# Altium schematic symbol library AltiumLibraries.SchLib: 442 symbols (part 1 of 3)
Pins are listed as number, name and electrical type; pins without a type are passive.

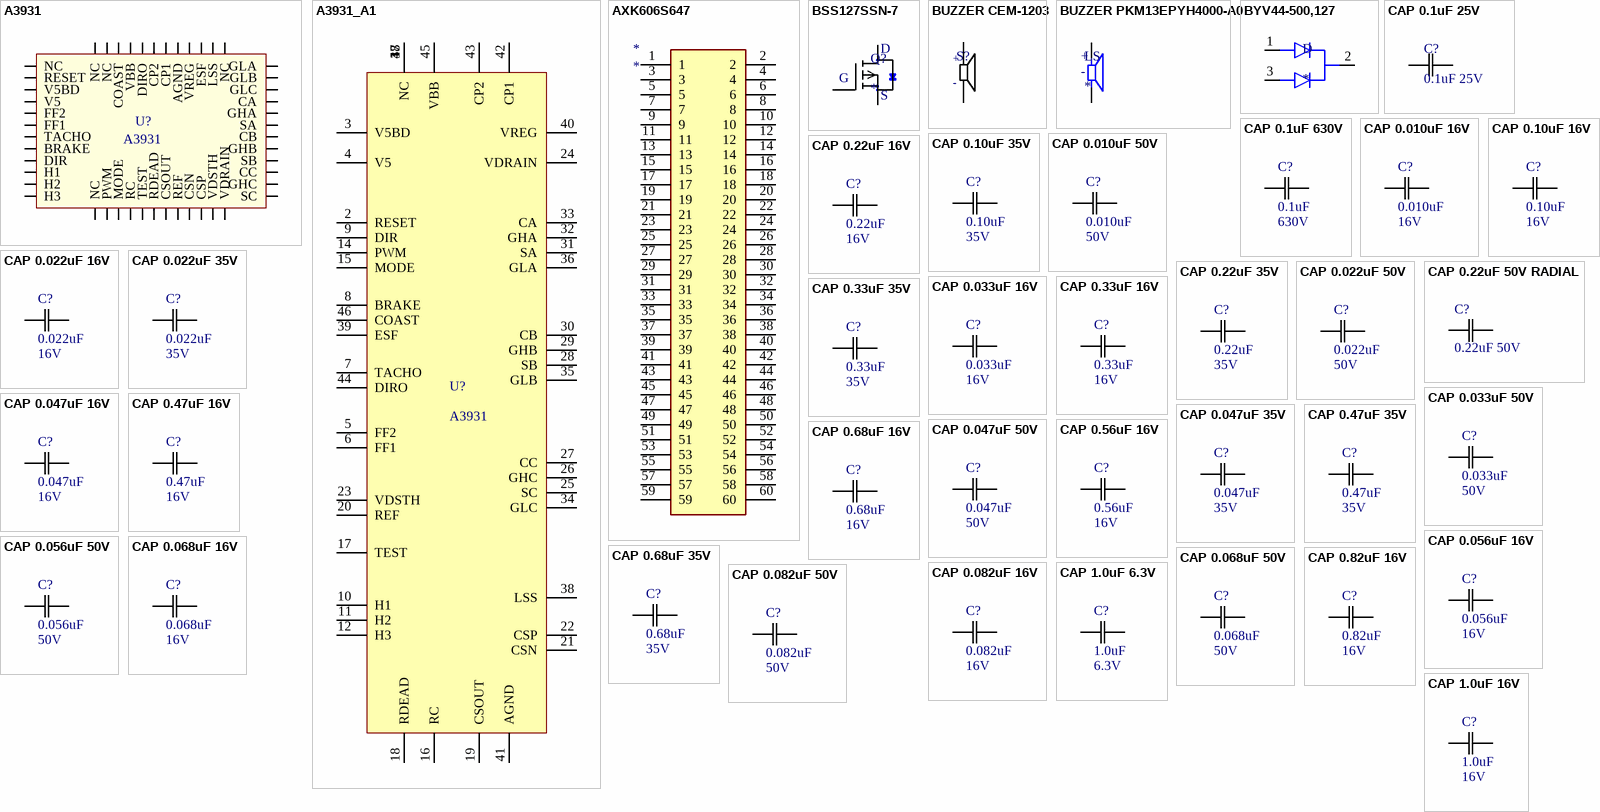
[diagram p0: symbols A3931 to CAP 1.0uF 16V]

## A3931
designator U?
IC MOTOR DRIVER 5.5V-50V 48LQFP; MF: Allegro MicroSystems; MP: A3931KJPTR-T; Rating: 5.5V ~ 50V; Digikey: 620-1290-1-ND; Digikey Link: https://www.digikey.com/product-detail/en/allegro-microsystems-llc/A3931KJPTR-T/620-1290-1-ND/2000021
pins: 1 NC, 2 RESET, 3 V5BD, 4 V5, 5 FF2, 6 FF1, 7 TACHO, 8 BRAKE, 9 DIR, 10 H1, 11 H2, 12 H3, 13 NC, 14 PWM, 15 MODE, 16 RC, 17 TEST, 18 RDEAD, 19 CSOUT, 20 REF, 21 CSN, 22 CSP, 23 VDSTH, 24 VDRAIN, 25 SC, 26 GHC, 27 CC, 28 SB, 29 GHB, 30 CB, 31 SA, 32 GHA, 33 CA, 34 GLC, 35 GLB, 36 GLA, 37 NC, 38 LSS, 39 ESF, 40 VREG, 41 AGND, 42 CP1, 43 CP2, 44 DIRO, 45 VBB, 46 COAST, 47 NC, 48 NC

## A3931_A1
designator U?, comment A3931
IC MOTOR DRIVER 5.5V-50V 48LQFP - Alternative Symbol; Digikey: 620-1290-1-ND; Digikey Link: https://www.digikey.ca/product-detail/en/allegro-microsystems/A3931KJPTR-T/620-1290-1-ND/2000021; Supplier 1: Digi-Key; Supplier Part Number 1: 620-1290-1-ND
pins: 1 NC, 2 RESET, 3 V5BD, 4 V5, 5 FF2, 6 FF1, 7 TACHO, 8 BRAKE, 9 DIR, 10 H1, 11 H2, 12 H3, 13, 14 PWM, 15 MODE, 16 RC, 17 TEST, 18 RDEAD, 19 CSOUT, 20 REF, 21 CSN, 22 CSP, 23 VDSTH, 24 VDRAIN, 25 SC, 26 GHC, 27 CC, 28 SB, 29 GHB, 30 CB, 31 SA, 32 GHA, 33 CA, 34 GLC, 35 GLB, 36 GLA, 37 NC, 38 LSS, 39 ESF, 40 VREG, 41 AGND, 42 CP1, 43 CP2, 44 DIRO, 45 VBB, 46 COAST, 47 NC, 48 NC

## AXK606S647
designator *
RS14100_WIFI_CONN
pins: 1, 2, 3, 4, 5, 6, 7, 8, 9, 10, 11, 12, 13, 14, 15, 16, 17, 18, 19, 20, 21, 22, 23, 24, 25, 26, 27, 28, 29, 30, 31, 32, 33, 34, 35, 36, 37, 38, 39, 40, 41, 42, 43, 44, 45, 46, 47, 48, 49, 50, 51, 52, 53, 54, 55, 56, 57, 58, 59, 60

## BSS127SSN-7
designator Q?
Small Signal N-Ch, 600Vds; MFG: Diodes Incorporated; Supplier: Digikey; Supplier PN: BSS127SSN-7DICT-ND
pins: D, G, S

## BUZZER CEM-1203
designator S?  (value not drawn)
AUDIO MAGNETIC XDCR 3-5V TH; Current Rating: 35 mA @ 3.5 V; Frequency: 2.048 kHz @ 3.5 V; ComponentLink1Description: Digikey Link; ComponentLink1URL: https://www.digikey.ca/products/en?keywords=CEM%201203%20buzzer; ComponentLink2Description: SnapEDA Link; ComponentLink2URL: https://www.snapeda.com/parts/CEM-1203%2842%29/CUI%20Devices/view-part/?ref=search&t=CEM%201203; Supplier 1: Digi-Key; Supplier Part Number 1: 102-1153-ND
pins: N, P
text: +; -

## BUZZER PKM13EPYH4000-A0
designator LS
Buzzers Transducer, Externally Driven Piezo 1.5V 4kHz 70dB @ 1.5V, 10cm Through Hole PC Pins; MF: Murata; MP: PKM13EPYH4000-A0; Value: *; SnapEDA_Link: https://www.snapeda.com/parts/PKM13EPYH4000-A0/Murata/view-part/4970420/?ref=snap; Package: Radial-2 Murata; Supplier 1: Digi-Key; Supplier Part Number 1: 490-4698-1-ND
pins: N, P
text: +; -

## BYV44-500,127
designator D
DIODE ARRAY GP 500V 30A TO220AB; MP: BYV44-500,127; MF: WeEn Semiconductors; Package: TO-220-3; Supplier 1: Digi-Key; Supplier Part Number 1: BYV44-500,127-ND
pins: 1 ANODE1, 2 COMMON_CATHODE, 3 ANODE2

## CAP 0.1uF 25V
designator C?, comment 0.1uF 25V
CAP CER 0.1UF 25V X7R 0805; Tolerance: 10%; Value: 0.1uF; Temperature Coefficient: X7R; Rating: 25V; Operating Temperature: -55°C ~ 125°C
pins: 1 C1, 2 C2

## CAP 0.1uF 630V
designator C?, comment Rating: 630V  (hidden comment: 0.1uF)
CAP CER 0.1uF 630V X7R 1210; Tolerance: 10%; Package: 1210; Temperature Coefficient: X7R; Operating Temperature: -55°C ~ 125°C; Value: 0.1uF
pins: 1 C1, 2 C2

## CAP 0.010uF 16V
designator C?, comment Rating: 16V  (hidden comment: 0.010uF)
CAP CER 0.010UF 16V X5R 0603/0805; Tolerance: 10%; Package: 0603/0805; Temperature Coefficient: X5R; Operating Temperature: -55°C ~ 85°C; Value: 0.010uF
pins: 1 C1, 2 C2

## CAP 0.10uF 16V
designator C?, comment Rating: 16V  (hidden comment: 0.10uF)
CAP CER 0.10UF 16V X5R 0603/0805; Tolerance: 10%; Package: 0603/0805; Temperature Coefficient: X5R; Operating Temperature: -55°C ~ 85°C; Value: 0.10uF
pins: 1 C1, 2 C2

## CAP 0.10uF 35V
designator C?, comment Rating: 35V  (hidden comment: 0.10uF)
CAP CER 0.10UF 35V X7R 0603/0805; Tolerance: 10%; Package: 0603/0805; Temperature Coefficient: X7R; Operating Temperature: -55°C ~ 125°C; Value: 0.10uF
pins: 1 C1, 2 C2

## CAP 0.010uF 50V
designator C?, comment Rating: 50V  (hidden comment: 0.010uF)
CAP CER 0.010UF 50V X7R 0603/0805; Tolerance: 10%; Package: 0603/0805; Temperature Coefficient: X7R; Operating Temperature: -55°C ~ 125°C; Value: 0.010uF
pins: 1 C1, 2 C2

## CAP 0.022uF 16V
designator C?, comment Rating: 16V  (hidden comment: 0.022uF)
CAP CER 0.022UF 16V X5R 0603/0805; Tolerance: 10%; Package: 0603/0805; Temperature Coefficient: X5R; Operating Temperature: -55°C ~ 85°C; Value: 0.022uF
pins: 1 C1, 2 C2

## CAP 0.22uF 16V
designator C?, comment Rating: 16V  (hidden comment: 0.22uF)
CAP CER 0.22UF 16V X5R 0603/0805; Tolerance: 10%; Package: 0603/0805; Temperature Coefficient: X5R; Operating Temperature: -55°C ~ 85°C; Value: 0.22uF
pins: 1 C1, 2 C2

## CAP 0.022uF 35V
designator C?, comment Rating: 35V  (hidden comment: 0.022uF)
CAP CER 0.022UF 35V X7R 0603/0805; Tolerance: 10%; Package: 0603/0805; Temperature Coefficient: X7R; Operating Temperature: -55°C ~ 125°C; Value: 0.022uF
pins: 1 C1, 2 C2

## CAP 0.22uF 35V
designator C?, comment Rating: 35V  (hidden comment: 0.22uF)
CAP CER 0.22UF 35V X7R 0603/0805; Tolerance: 10%; Package: 0603/0805; Temperature Coefficient: X7R; Operating Temperature: -55°C ~ 125°C; Value: 0.22uF
pins: 1 C1, 2 C2

## CAP 0.022uF 50V
designator C?, comment Rating: 50V  (hidden comment: 0.022uF)
CAP CER 0.022UF 50V X7R 0603/0805; Tolerance: 10%; Package: 0603/0805; Temperature Coefficient: X7R; Operating Temperature: -55°C ~ 125°C; Value: 0.022uF
pins: 1 C1, 2 C2

## CAP 0.22uF 50V RADIAL
designator C?, comment 0.22uF 50V
CAP CER 0.22UF 50V X7R RADIAL; Tolerance: 10%; Package: Through Hole Radial; Value: 0.22 uF; Rating: 50V; ComponentLink1Description: digikey; ComponentLink1URL: https://www.digikey.ca/product-detail/en/kemet/C317C221K2G5TA7301/399-13974-1-ND/6562545; Temperature coefficient: X7R; Dimensions: 0.200" L x 0.125" W (5.08mm x 3.18mm); Operating temperature: -55°C ~ 125°C
pins: 1 C1, 2 C2

## CAP 0.033uF 16V
designator C?, comment Rating: 16V  (hidden comment: 0.033uF)
CAP CER 0.033UF 16V X5R 0603/0805; Tolerance: 10%; Package: 0603/0805; Temperature Coefficient: X5R; Operating Temperature: -55°C ~ 85°C; Value: 0.033uF
pins: 1 C1, 2 C2

## CAP 0.33uF 16V
designator C?, comment Rating: 16V  (hidden comment: 0.33uF)
CAP CER 0.33UF 16V X5R 0603/0805; Tolerance: 10%; Package: 0603/0805; Temperature Coefficient: X5R; Operating Temperature: -55°C ~ 85°C; Value: 0.33uF
pins: 1 C1, 2 C2

## CAP 0.33uF 35V
designator C?, comment Rating: 35V  (hidden comment: 0.33uF)
CAP CER 0.33UF 35V X7R 0603/0805; Tolerance: 10%; Package: 0603/0805; Temperature Coefficient: X7R; Operating Temperature: -55°C ~ 125°C; Value: 0.33uF
pins: 1 C1, 2 C2

## CAP 0.033uF 50V
designator C?, comment Rating: 50V  (hidden comment: 0.033uF)
CAP CER 0.033UF 50V X7R 0603/0805; Tolerance: 10%; Package: 0603/0805; Temperature Coefficient: X7R; Operating Temperature: -55°C ~ 125°C; Value: 0.033uF
pins: 1 C1, 2 C2

## CAP 0.047uF 16V
designator C?, comment Rating: 16V  (hidden comment: 0.047uF)
CAP CER 0.047UF 16V X5R 0603/0805; Tolerance: 10%; Package: 0603/0805; Temperature Coefficient: X5R; Operating Temperature: -55°C ~ 85°C; Value: 0.047uF
pins: 1 C1, 2 C2

## CAP 0.47uF 16V
designator C?, comment Rating: 16V  (hidden comment: 0.47uF)
CAP CER 0.47UF 16V X5R 0603/0805; Tolerance: 10%; Package: 0603/0805; Temperature Coefficient: X5R; Operating Temperature: -55°C ~ 85°C; Value: 0.47uF
pins: 1 C1, 2 C2

## CAP 0.047uF 35V
designator C?, comment Rating: 35V  (hidden comment: 0.047uF)
CAP CER 0.047UF 35V X7R 0603/0805; Tolerance: 10%; Package: 0603/0805; Temperature Coefficient: X7R; Operating Temperature: -55°C ~ 125°C; Value: 0.047uF
pins: 1 C1, 2 C2

## CAP 0.47uF 35V
designator C?, comment Rating: 35V  (hidden comment: 0.47uF)
CAP CER 0.47UF 35V X7R 0603/0805; Tolerance: 10%; Package: 0603/0805; Temperature Coefficient: X7R; Operating Temperature: -55°C ~ 125°C; Value: 0.47uF
pins: 1 C1, 2 C2

## CAP 0.047uF 50V
designator C?, comment Rating: 50V  (hidden comment: 0.047uF)
CAP CER 0.047UF 50V X7R 0603/0805; Tolerance: 10%; Package: 0603/0805; Temperature Coefficient: X7R; Operating Temperature: -55°C ~ 125°C; Value: 0.047uF
pins: 1 C1, 2 C2

## CAP 0.056uF 16V
designator C?, comment Rating: 16V  (hidden comment: 0.056uF)
CAP CER 0.056UF 16V X5R 0603; Tolerance: 10%; Package: 0603; Temperature Coefficient: X5R; Operating Temperature: -55°C ~ 85°C; Value: 0.056uF
pins: 1 C1, 2 C2

## CAP 0.56uF 16V
designator C?, comment Rating: 16V  (hidden comment: 0.56uF)
CAP CER 0.56UF 16V X5R 0805; Tolerance: 10%; Package: 0805; Temperature Coefficient: X5R; Operating Temperature: -55°C ~ 85°C; Value: 0.56uF
pins: 1 C1, 2 C2

## CAP 0.056uF 50V
designator C?, comment Rating: 50V  (hidden comment: 0.056uF)
CAP CER 0.056UF 50V X7R 0603/0805; Tolerance: 10%; Package: 0603/0805; Temperature Coefficient: X7R; Operating Temperature: -55°C ~ 125°C; Value: 0.056uF
pins: 1 C1, 2 C2

## CAP 0.068uF 16V
designator C?, comment Rating: 16V  (hidden comment: 0.068uF)
CAP CER 0.068UF 16V X5R 0603/0805; Tolerance: 10%; Package: 0603/0805; Temperature Coefficient: X5R; Operating Temperature: -55°C ~ 85°C; Value: 0.068uF
pins: 1 C1, 2 C2

## CAP 0.68uF 16V
designator C?, comment Rating: 16V  (hidden comment: 0.68uF)
CAP CER 0.68UF 16V X5R 0603/0805; Tolerance: 10%; Package: 0603/0805; Temperature Coefficient: X5R; Operating Temperature: -55°C ~ 85°C; Value: 0.68uF
pins: 1 C1, 2 C2

## CAP 0.68uF 35V
designator C?, comment Rating: 35V  (hidden comment: 0.68uF)
CAP CER 0.68UF 35V X7R 0603/0805; Tolerance: 10%; Package: 0603/0805; Temperature Coefficient: X7R; Operating Temperature: -55°C ~ 125°C; Value: 0.68uF
pins: 1 C1, 2 C2

## CAP 0.068uF 50V
designator C?, comment Rating: 50V  (hidden comment: 0.068uF)
CAP CER 0.068UF 50V X7R 0603/0805; Tolerance: 10%; Package: 0603/0805; Temperature Coefficient: X7R; Operating Temperature: -55°C ~ 125°C; Value: 0.068uF
pins: 1 C1, 2 C2

## CAP 0.082uF 16V
designator C?, comment Rating: 16V  (hidden comment: 0.082uF)
CAP CER 0.082UF 16V X5R 0603; Tolerance: 10%; Package: 0603; Temperature Coefficient: X5R; Operating Temperature: -55°C ~ 85°C; Value: 0.082uF
pins: 1 C1, 2 C2

## CAP 0.82uF 16V
designator C?, comment Rating: 16V  (hidden comment: 0.82uF)
CAP CER 0.82UF 16V X5R 0805; Tolerance: 10%; Package: 0805; Temperature Coefficient: X5R; Operating Temperature: -55°C ~ 85°C; Value: 0.82uF
pins: 1 C1, 2 C2

## CAP 0.082uF 50V
designator C?, comment Rating: 50V  (hidden comment: 0.082uF)
CAP CER 0.082UF 50V X7R 0603/0805; Tolerance: 10%; Package: 0603/0805; Temperature Coefficient: X7R; Operating Temperature: -55°C ~ 125°C; Value: 0.082uF
pins: 1 C1, 2 C2

## CAP 1.0uF 6.3V
designator C?, comment Rating: 6.3V  (hidden comment: 1.0uF)
CAP CER 1.0UF 6.3V X5R 0603/0805; Tolerance: 10%; Package: 0603/0805; Temperature Coefficient: X5R; Operating Temperature: -55°C ~ 85°C; Value: 1.0uF
pins: 1 C1, 2 C2

## CAP 1.0uF 16V
designator C?, comment Rating: 16V  (hidden comment: 1.0uF)
CAP CER 1.0UF 16V X5R 0603/0805; Tolerance: 10%; Package: 0603/0805; Temperature Coefficient: X5R; Operating Temperature: -55°C ~ 85°C; Value: 1.0uF
pins: 1 C1, 2 C2

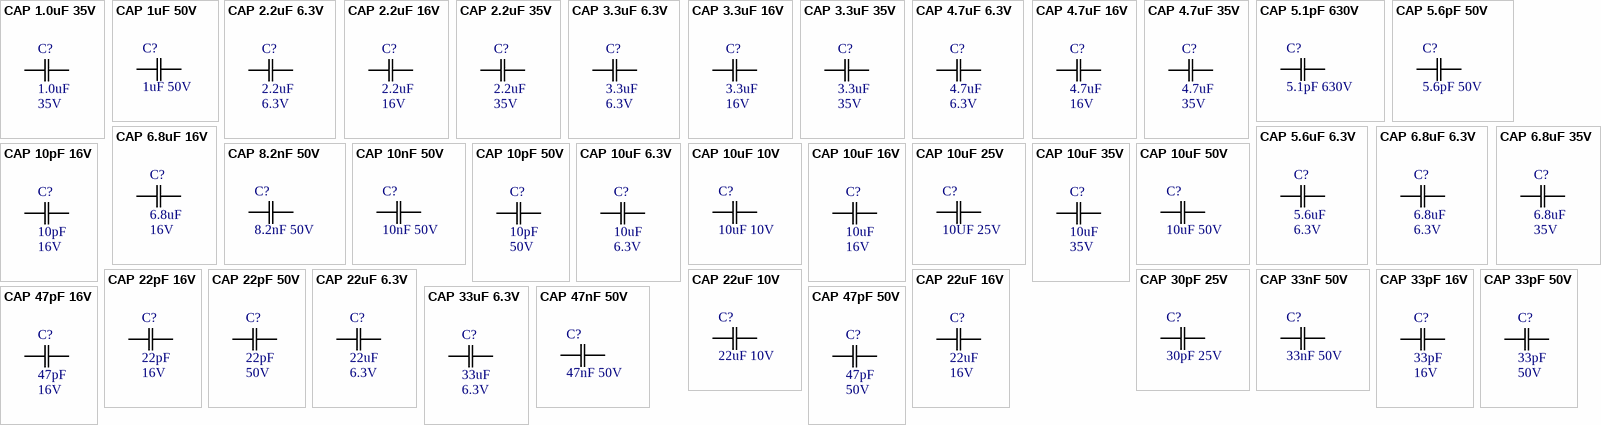
[diagram p1: symbols CAP 1.0uF 35V to CAP 47pF 50V]

## CAP 1.0uF 35V
designator C?, comment Rating: 35V  (hidden comment: 1.0uF)
CAP CER 1.0UF 35V X7R 0603/0805; Tolerance: 10%; Package: 0603/0805; Temperature Coefficient: X7R; Operating Temperature: -55°C ~ 125°C; Value: 1.0uF
pins: 1 C1, 2 C2

## CAP 1uF 50V
designator C?, comment 1uF 50V
CAP CER 1UF 50V X7R 0805; Tolerance: 10%; Package: 0805; Value: 1uF; Rating: 50V; Temperature Coefficient: X7R; Operating Temperature: -55°C ~ 125°C
pins: 1 C1, 2 C2

## CAP 2.2uF 6.3V
designator C?, comment Rating: 6.3V  (hidden comment: 2.2uF)
CAP CER 2.2UF 6.3V X5R 0603/0805; Tolerance: 10%; Package: 0603/0805; Temperature Coefficient: X5R; Operating Temperature: -55°C ~ 85°C; Value: 2.2uF
pins: 1 C1, 2 C2

## CAP 2.2uF 16V
designator C?, comment Rating: 16V  (hidden comment: 2.2uF)
CAP CER 2.2UF 16V X5R 0603/0805; Tolerance: 10%; Package: 0603/0805; Temperature Coefficient: X5R; Operating Temperature: -55°C ~ 85°C; Value: 2.2uF
pins: 1 C1, 2 C2

## CAP 2.2uF 35V
designator C?, comment Rating: 35V  (hidden comment: 2.2uF)
CAP CER 2.2UF 35V X7R 0603/0805; Tolerance: 10%; Package: 0603/0805; Temperature Coefficient: X7R; Operating Temperature: -55°C ~ 125°C; Value: 2.2uF
pins: 1 C1, 2 C2

## CAP 3.3uF 6.3V
designator C?, comment Rating: 6.3V  (hidden comment: 3.3uF)
CAP CER 3.3UF 6.3V X5R 0603/0805; Tolerance: 10%; Package: 0603/0805; Temperature Coefficient: X5R; Operating Temperature: -55°C ~ 85°C; Value: 3.3uF
pins: 1 C1, 2 C2

## CAP 3.3uF 16V
designator C?, comment Rating: 16V  (hidden comment: 3.3uF)
CAP CER 3.3UF 16V X5R 0603/0805; Tolerance: 10%; Package: 0603/0805; Temperature Coefficient: X5R; Operating Temperature: -55°C ~ 85°C; Value: 3.3uF
pins: 1 C1, 2 C2

## CAP 3.3uF 35V
designator C?, comment Rating: 35V  (hidden comment: 3.3uF)
CAP CER 3.3UF 35V X7R 0603/0805; Tolerance: 10%; Package: 0603/0805; Temperature Coefficient: X7R; Operating Temperature: -55°C ~ 125°C; Value: 3.3uF
pins: 1 C1, 2 C2

## CAP 4.7uF 6.3V
designator C?, comment Rating: 6.3V  (hidden comment: 4.7uF)
CAP CER 4.7UF 6.3V X5R 0603/0805; Tolerance: 10%; Package: 0603/0805; Temperature Coefficient: X5R; Operating Temperature: -55°C ~ 85°C; Value: 4.7uF
pins: 1 C1, 2 C2

## CAP 4.7uF 16V
designator C?, comment Rating: 16V  (hidden comment: 4.7uF)
CAP CER 4.7UF 16V X5R 0603/0805; Tolerance: 10%; Package: 0603/0805; Temperature Coefficient: X5R; Operating Temperature: -55°C ~ 85°C; Value: 4.7uF
pins: 1 C1, 2 C2

## CAP 4.7uF 35V
designator C?, comment Rating: 35V  (hidden comment: 4.7uF)
CAP CER 4.7UF 35V X7R 0603/0805; Tolerance: 10%; Package: 0603/0805; Temperature Coefficient: X7R; Operating Temperature: -55°C ~ 125°C; Value: 4.7uF
pins: 1 C1, 2 C2

## CAP 5.1pF 630V
designator C?, comment 5.1pF 630V
CAP CER 5.1PF 630V C0G/NP0 0805; Tolerance: 10%; Rating: 50V; Package: 0805; Value: 5.1pF; Temperature Coefficient: C0G/NP0; Operating Temperature: -55°C ~ 125°C
pins: 1 C1, 2 C2

## CAP 5.6pF 50V
designator C?, comment 5.6pF 50V
CAP CER 5.6PF 50V C0G/NP0 0805; Tolerance: 5%; Package: 0805; Value: 5.6pF; Rating: 50V; Temperature Coefficient: C0G/NP0; Operating Temperature: -55°C ~ 125°C
pins: 1 C1, 2 C2

## CAP 5.6uF 6.3V
designator C?, comment Rating: 6.3V  (hidden comment: 5.6uF)
CAP CER 5.6UF 6.3V X5R 0805; Tolerance: 10%; Package: 0805; Temperature Coefficient: X5R; Operating Temperature: -55°C ~ 85°C; Value: 5.6uF
pins: 1 C1, 2 C2

## CAP 6.8uF 6.3V
designator C?, comment Rating: 6.3V  (hidden comment: 6.8uF)
CAP CER 6.8UF 6.3V X5R 0603/0805; Tolerance: 10%; Package: 0603/0805; Temperature Coefficient: X5R; Operating Temperature: -55°C ~ 85°C; Value: 6.8uF
pins: 1 C1, 2 C2

## CAP 6.8uF 16V
designator C?, comment Rating: 16V  (hidden comment: 6.8uF)
CAP CER 6.8UF 16V X5R 0603/0805; Tolerance: 10%; Package: 0603/0805; Temperature Coefficient: X5R; Operating Temperature: -55°C ~ 85°C; Value: 6.8uF
pins: 1 C1, 2 C2

## CAP 6.8uF 35V
designator C?, comment Rating: 35V  (hidden comment: 6.8uF)
CAP CER 6.8UF 35V X7R 0805; Tolerance: 10%; Package: 0805; Temperature Coefficient: X7R; Operating Temperature: -55°C ~ 125°C; Value: 6.8uF
pins: 1 C1, 2 C2

## CAP 8.2nF 50V
designator C?, comment 8.2nF 50V
CAP CER 8200PF 50V X7R 0805; Tolerance: 10%; Package: 0805; Value: 8.2nF; Rating: 50V; Temperature Coefficient: X7R; Operating Temperature: -55°C ~ 125°C
pins: 1 C1, 2 C2

## CAP 10nF 50V
designator C?, comment 10nF 50V
CAP CER 10000PF 50V X7R 0805; Tolerance: 10%; Package: 0805; Value: 10nF; Rating: 50V; Temperature Coefficient: X7R; Operating Temperature: -55°C ~ 125°C
pins: 1 C1, 2 C2

## CAP 10pF 16V
designator C?, comment Rating: 16V  (hidden comment: 10pF)
CAP CER 10PF 16V X5R 0603; Tolerance: 10%; Package: 0603; Temperature Coefficient: X5R; Operating Temperature: -55°C ~ 85°C; Value: 10pF
pins: 1 C1, 2 C2

## CAP 10pF 50V
designator C?, comment Rating: 50V  (hidden comment: 10pF)
CAP CER 10PF 50V X7R 0603/0805; Tolerance: 10%; Package: 0603/0805; Temperature Coefficient: X7R; Operating Temperature: -55°C ~ 125°C; Value: 10pF
pins: 1 C1, 2 C2

## CAP 10uF 6.3V
designator C?, comment Rating: 6.3V  (hidden comment: 10uF)
CAP CER 10UF 6.3V X5R 0603/0805; Tolerance: 10%; Package: 0603/0805; Temperature Coefficient: X5R; Operating Temperature: -55°C ~ 85°C; Value: 10uF
pins: 1 C1, 2 C2

## CAP 10uF 10V
designator C?, comment 10uF 10V
CAP CER 10UF 10V X5R 0805; Tolerance: 10%; Package: 0805; Value: 10uF; Rating: 10V
pins: 1 C1, 2 C2

## CAP 10uF 16V
designator C?, comment Rating: 16V  (hidden comment: 10uF)
CAP CER 10UF 16V X5R 0603/0805; Tolerance: 10%; Package: 0603/0805; Temperature Coefficient: X5R; Operating Temperature: -55°C ~ 85°C; Value: 10uF
pins: 1 C1, 2 C2

## CAP 10uF 25V
designator C?, comment 10UF 25V
CAP CER 10UF 25V X5R 1206; Tolerance: 10%; Package: 1206; Value: 10uF; Rating: 25V; Temperature Coefficient: X5R; Operating Temperature: -55°C ~ 85°C
pins: 1 C1, 2 C2

## CAP 10uF 35V
designator C?, comment Rating: 35V  (hidden comment: 10uF)
CAP CER 10UF 35V X7R 0805; Tolerance: 10%; Package: 0805; Temperature Coefficient: X7R; Operating Temperature: -55°C ~ 125°C; Value: 10uF
pins: 1 C1, 2 C2

## CAP 10uF 50V
designator C?, comment 10uF 50V
CAP CER 10UF 50V X7R; Tolerance: 10%; Package: 1210; Value: 10uF; Rating: 50V; ComponentLink1Description: digikey; ComponentLink1URL: https://www.digikey.ca/en/products/detail/kemet/C1210C106M5RACTU/4918883
pins: 1 C1, 2 C2

## CAP 22pF 16V
designator C?, comment Rating: 16V  (hidden comment: 22pF)
CAP CER 22PF 16V X5R 0603; Tolerance: 10%; Package: 0603; Temperature Coefficient: X5R; Operating Temperature: -55°C ~ 85°C; Value: 22pF
pins: 1 C1, 2 C2

## CAP 22pF 50V
designator C?, comment Rating: 50V  (hidden comment: 22pF)
CAP CER 22PF 50V X7R 0603/0805; Tolerance: 10%; Package: 0603/0805; Temperature Coefficient: X7R; Operating Temperature: -55°C ~ 125°C; Value: 22pF
pins: 1 C1, 2 C2

## CAP 22uF 6.3V
designator C?, comment Rating: 6.3V  (hidden comment: 22uF)
CAP CER 22UF 6.3V X5R 0603/0805; Tolerance: 10%; Package: 0603/0805; Temperature Coefficient: X5R; Operating Temperature: -55°C ~ 85°C; Value: 22uF
pins: 1 C1, 2 C2

## CAP 22uF 10V
designator C?, comment 22uF 10V
CAP CER 2.2UF 10V X5R 0805; Tolerance: 20%; Package: 0805; Value: 22uF; Rating: 10V; Temperature Coefficient: X5R; Operating Temperature: -55°C ~ 85°C
pins: 1 C1, 2 C2

## CAP 22uF 16V
designator C?, comment Rating: 16V  (hidden comment: 22uF)
CAP CER 22UF 16V X5R 0805; Tolerance: 10%; Package: 0805; Temperature Coefficient: X5R; Operating Temperature: -55°C ~ 85°C; Value: 22uF
pins: 1 C1, 2 C2

## CAP 30pF 25V
designator C?, comment 30pF 25V
CAP CER 30PF 25V NP0 0805; Tolerance: 20%; Package: 0805; Value: 30pF; Rating: 25V
pins: 1 C1, 2 C2

## CAP 33nF 50V
designator C?, comment 33nF 50V
CAP CER 0.033UF 50V X7R 0805; Tolerance: 5%; Package: 0805; Value: 33nF; Rating: 50V
pins: 1 C1, 2 C2

## CAP 33pF 16V
designator C?, comment Rating: 16V  (hidden comment: 33pF)
CAP CER 33PF 16V X5R 0603; Tolerance: 10%; Package: 0603; Temperature Coefficient: X5R; Operating Temperature: -55°C ~ 85°C; Value: 33pF
pins: 1 C1, 2 C2

## CAP 33pF 50V
designator C?, comment Rating: 50V  (hidden comment: 33pF)
CAP CER 33PF 50V X7R 0603/0805; Tolerance: 10%; Package: 0603/0805; Temperature Coefficient: X7R; Operating Temperature: -55°C ~ 125°C; Value: 33pF
pins: 1 C1, 2 C2

## CAP 33uF 6.3V
designator C?, comment Rating: 6.3V  (hidden comment: 33uF)
CAP CER 33UF 6.3V X5R 0805; Tolerance: 10%; Package: 0805; Temperature Coefficient: X5R; Operating Temperature: -55°C ~ 85°C; Value: 33uF
pins: 1 C1, 2 C2

## CAP 47nF 50V
designator C?, comment 47nF 50V
CAP CER 0.047UF 50V X7R 0805; Tolerance: 5%; Package: 0805; Value: 47nF; Rating: 50V
pins: 1 C1, 2 C2

## CAP 47pF 16V
designator C?, comment Rating: 16V  (hidden comment: 47pF)
CAP CER 47PF 16V X5R 0603/0805; Tolerance: 10%; Package: 0603/0805; Temperature Coefficient: X5R; Operating Temperature: -55°C ~ 85°C; Value: 47pF
pins: 1 C1, 2 C2

## CAP 47pF 50V
designator C?, comment Rating: 50V  (hidden comment: 47pF)
CAP CER 47PF 50V X7R 0603/0805; Tolerance: 10%; Package: 0603/0805; Temperature Coefficient: X7R; Operating Temperature: -55°C ~ 125°C; Value: 47pF
pins: 1 C1, 2 C2

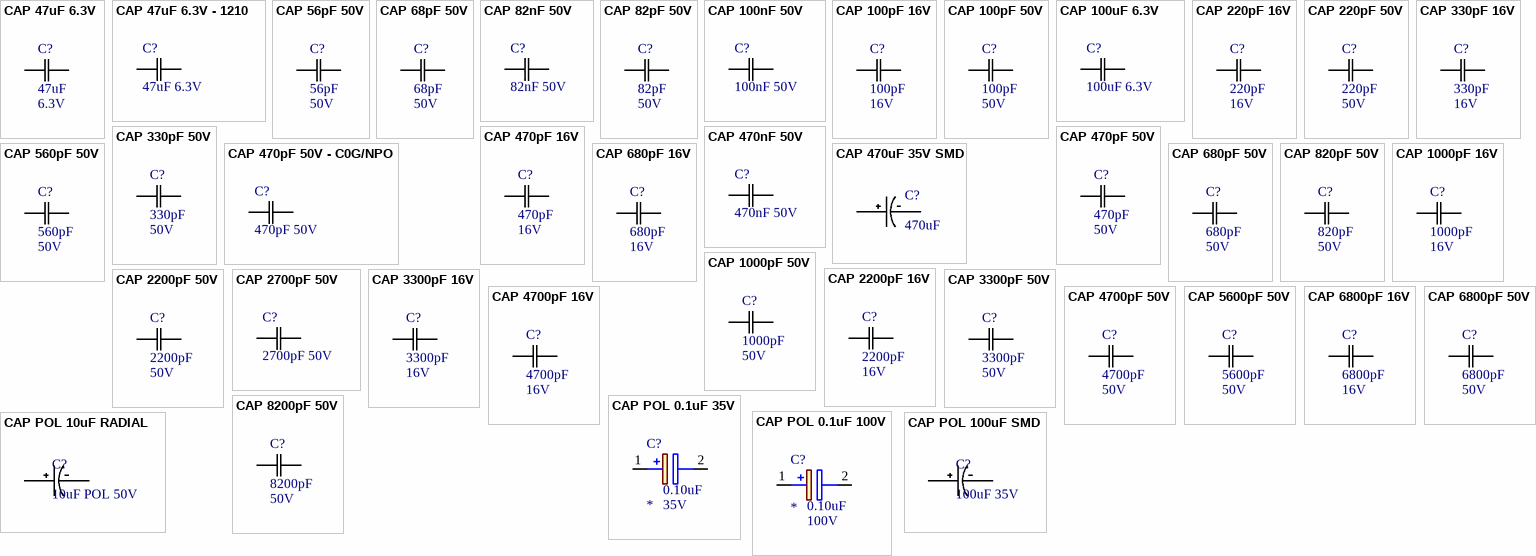
[diagram p2: symbols CAP 47uF 6.3V to CAP POL 100uF SMD]

## CAP 47uF 6.3V
designator C?, comment Rating: 6.3V  (hidden comment: 47uF)
CAP CER 47UF 6.3V X5R 0603/0805; Tolerance: 20%; Package: 0603/0805; Temperature Coefficient: X5R; Operating Temperature: -55°C ~ 85°C; Value: 47uF
pins: 1 C1, 2 C2

## CAP 47uF 6.3V - 1210
designator C?, comment 47uF 6.3V
CAP CER 47UF 6.3V X7R 1210; Tolerance: 10%; Package: 1210; Value: 47uF; Rating: 6.3V; ComponentLink1Description: digikey; ComponentLink1URL: https://www.digikey.ca/en/products/detail/kemet/C1210C106M5RACTU/4918883
pins: 1 C1, 2 C2

## CAP 56pF 50V
designator C?, comment Rating: 50V  (hidden comment: 56pF)
CAP CER 56PF 50V X7R 0603/0805; Tolerance: 10%; Package: 0603/0805; Temperature Coefficient: X7R; Operating Temperature: -55°C ~ 125°C; Value: 56pF
pins: 1 C1, 2 C2

## CAP 68pF 50V
designator C?, comment Rating: 50V  (hidden comment: 68pF)
CAP CER 68PF 50V X7R 0603/0805; Tolerance: 10%; Package: 0603/0805; Temperature Coefficient: X7R; Operating Temperature: -55°C ~ 125°C; Value: 68pF
pins: 1 C1, 2 C2

## CAP 82nF 50V
designator C?, comment 82nF 50V
CAP CER 0.082UF 50V X7R 0805; Tolerance: 5%; Package: 0805; Value: 82nF; Rating: 50V
pins: 1 C1, 2 C2

## CAP 82pF 50V
designator C?, comment Rating: 50V  (hidden comment: 82pF)
CAP CER 82PF 50V X7R 0603/0805; Tolerance: 10%; Package: 0603/0805; Temperature Coefficient: X7R; Operating Temperature: -55°C ~ 125°C; Value: 82pF
pins: 1 C1, 2 C2

## CAP 100nF 50V
designator C?, comment 100nF 50V
CAP CER 0.1UF 50V X7R 0805; Tolerance: 10%; Package: 0805; Value: 100nF; Rating: 50V
pins: 1 C1, 2 C2

## CAP 100pF 16V
designator C?, comment Rating: 16V  (hidden comment: 100pF)
CAP CER 100PF 16V X5R 0603/0805; Tolerance: 10%; Package: 0603/0805; Temperature Coefficient: X5R; Operating Temperature: -55°C ~ 85°C; Value: 100pF
pins: 1 C1, 2 C2

## CAP 100pF 50V
designator C?, comment Rating: 50V  (hidden comment: 100pF)
CAP CER 100PF 50V X7R 0603/0805; Tolerance: 10%; Package: 0603/0805; Temperature Coefficient: X7R; Operating Temperature: -55°C ~ 125°C; Value: 100pF
pins: 1 C1, 2 C2

## CAP 100uF 6.3V
designator C?, comment 100uF 6.3V
CAP CER 100UF 6.3V X5R 1206; Tolerance: 20%; Package: 1206; Value: 100uF; Rating: 6.3V
pins: 1 C1, 2 C2

## CAP 220pF 16V
designator C?, comment Rating: 16V  (hidden comment: 220pF)
CAP CER 220PF 16V X5R 0603/0805; Tolerance: 10%; Package: 0603/0805; Temperature Coefficient: X5R; Operating Temperature: -55°C ~ 85°C; Value: 220pF
pins: 1 C1, 2 C2

## CAP 220pF 50V
designator C?, comment Rating: 50V  (hidden comment: 220pF)
CAP CER 220PF 50V X7R 0603/0805; Tolerance: 10%; Package: 0603/0805; Temperature Coefficient: X7R; Operating Temperature: -55°C ~ 125°C; Value: 220pF
pins: 1 C1, 2 C2

## CAP 330pF 16V
designator C?, comment Rating: 16V  (hidden comment: 330pF)
CAP CER 330PF 16V X5R 0603/0805; Tolerance: 10%; Package: 0603/0805; Temperature Coefficient: X5R; Operating Temperature: -55°C ~ 85°C; Value: 330pF
pins: 1 C1, 2 C2

## CAP 330pF 50V
designator C?, comment Rating: 50V  (hidden comment: 330pF)
CAP CER 330PF 50V X7R 0603/0805; Tolerance: 10%; Package: 0603/0805; Temperature Coefficient: X7R; Operating Temperature: -55°C ~ 125°C; Value: 330pF
pins: 1 C1, 2 C2

## CAP 470nF 50V
designator C?, comment 470nF 50V
CAP CER 0.1UF 50V X7R 0805; Tolerance: 10%; Package: 0805; Value: 470nF; Rating: 50V
pins: 1 C1, 2 C2

## CAP 470pF 16V
designator C?, comment Rating: 16V  (hidden comment: 470pF)
CAP CER 470PF 16V X5R 0603/0805; Tolerance: 10%; Package: 0603/0805; Temperature Coefficient: X5R; Operating Temperature: -55°C ~ 85°C; Value: 470pF
pins: 1 C1, 2 C2

## CAP 470pF 50V
designator C?, comment Rating: 50V  (hidden comment: 470pF)
CAP CER 470PF 50V X7R 0603/0805; Tolerance: 10%; Package: 0603/0805; Temperature Coefficient: X7R; Operating Temperature: -55°C ~ 125°C; Value: 470pF
pins: 1 C1, 2 C2

## CAP 470pF 50V - C0G/NPO
designator C?, comment 470pF 50V
CAP CER 470PF 50V C0G/NPO 0805; Tolerance: 5%; Package: 0805; Value: 470pF; Rating: 50V
pins: 1 C1, 2 C2

## CAP 470uF 35V SMD
designator C?, comment 470uF
470µF 35V Aluminum Electrolytic Capacitors Radial, Can - SMD 5000 Hrs @ 105°C; MP: EEV-FK1V471Q; MF: Panasonic Electronic; Price: None; Package: Radial Panasonic Electronic
pins: NEG, POS

## CAP 560pF 50V
designator C?, comment Rating: 50V  (hidden comment: 560pF)
CAP CER 560PF 50V X7R 0603/0805; Tolerance: 10%; Package: 0603/0805; Temperature Coefficient: X7R; Operating Temperature: -55°C ~ 125°C; Value: 560pF
pins: 1 C1, 2 C2

## CAP 680pF 16V
designator C?, comment Rating: 16V  (hidden comment: 680pF)
CAP CER 680PF 16V X5R 0603/0805; Tolerance: 10%; Package: 0603/0805; Temperature Coefficient: X5R; Operating Temperature: -55°C ~ 85°C; Value: 680pF
pins: 1 C1, 2 C2

## CAP 680pF 50V
designator C?, comment Rating: 50V  (hidden comment: 680pF)
CAP CER 680PF 50V X7R 0603/0805; Tolerance: 10%; Package: 0603/0805; Temperature Coefficient: X7R; Operating Temperature: -55°C ~ 125°C; Value: 680pF
pins: 1 C1, 2 C2

## CAP 820pF 50V
designator C?, comment Rating: 50V  (hidden comment: 820pF)
CAP CER 820PF 50V X7R 0603/0805; Tolerance: 10%; Package: 0603/0805; Temperature Coefficient: X7R; Operating Temperature: -55°C ~ 125°C; Value: 820pF
pins: 1 C1, 2 C2

## CAP 1000pF 16V
designator C?, comment Rating: 16V  (hidden comment: 1000pF)
CAP CER 1000PF 16V X5R 0603/0805; Tolerance: 10%; Package: 0603/0805; Temperature Coefficient: X5R; Operating Temperature: -55°C ~ 85°C; Value: 1000pF
pins: 1 C1, 2 C2

## CAP 1000pF 50V
designator C?, comment Rating: 50V  (hidden comment: 1000pF)
CAP CER 1000PF 50V X7R 0603/0805; Tolerance: 10%; Package: 0603/0805; Temperature Coefficient: X7R; Operating Temperature: -55°C ~ 125°C; Value: 1000pF
pins: 1 C1, 2 C2

## CAP 2200pF 16V
designator C?, comment Rating: 16V  (hidden comment: 2200pF)
CAP CER 2200PF 16V X5R 0603/0805; Tolerance: 10%; Package: 0603/0805; Temperature Coefficient: X5R; Operating Temperature: -55°C ~ 85°C; Value: 2200pF
pins: 1 C1, 2 C2

## CAP 2200pF 50V
designator C?, comment Rating: 50V  (hidden comment: 2200pF)
CAP CER 2200PF 50V X7R 0603/0805; Tolerance: 10%; Package: 0603/0805; Temperature Coefficient: X7R; Operating Temperature: -55°C ~ 125°C; Value: 2200pF
pins: 1 C1, 2 C2

## CAP 2700pF 50V
designator C?, comment 2700pF 50V
CAP CER 2700PF 50V X7R 0805; Tolerance: 10%; Package: 0805; Value: 2700pF; Rating: 50V; Temperature Coefficient: X7R; Operating Temperature: -55°C ~ 125°C
pins: 1 C1, 2 C2

## CAP 3300pF 16V
designator C?, comment Rating: 16V  (hidden comment: 3300pF)
CAP CER 3300PF 16V X5R 0603/0805; Tolerance: 10%; Package: 0603/0805; Temperature Coefficient: X5R; Operating Temperature: -55°C ~ 85°C; Value: 3300pF
pins: 1 C1, 2 C2

## CAP 3300pF 50V
designator C?, comment Rating: 50V  (hidden comment: 3300pF)
CAP CER 3300PF 50V X7R 0603/0805; Tolerance: 10%; Package: 0603/0805; Temperature Coefficient: X7R; Operating Temperature: -55°C ~ 125°C; Value: 3300pF
pins: 1 C1, 2 C2

## CAP 4700pF 16V
designator C?, comment Rating: 16V  (hidden comment: 4700pF)
CAP CER 4700PF 16V X5R 0603/0805; Tolerance: 10%; Package: 0603/0805; Temperature Coefficient: X5R; Operating Temperature: -55°C ~ 85°C; Value: 4700pF
pins: 1 C1, 2 C2

## CAP 4700pF 50V
designator C?, comment Rating: 50V  (hidden comment: 4700pF)
CAP CER 4700PF 50V X7R 0603/0805; Tolerance: 10%; Package: 0603/0805; Temperature Coefficient: X7R; Operating Temperature: -55°C ~ 125°C; Value: 4700pF
pins: 1 C1, 2 C2

## CAP 5600pF 50V
designator C?, comment Rating: 50V  (hidden comment: 5600pF)
CAP CER 5600PF 50V X7R 0603/0805; Tolerance: 10%; Package: 0603/0805; Temperature Coefficient: X7R; Operating Temperature: -55°C ~ 125°C; Value: 5600pF
pins: 1 C1, 2 C2

## CAP 6800pF 16V
designator C?, comment Rating: 16V  (hidden comment: 6800pF)
CAP CER 6800PF 16V X5R 0603/0805; Tolerance: 10%; Package: 0603/0805; Temperature Coefficient: X5R; Operating Temperature: -55°C ~ 85°C; Value: 6800pF
pins: 1 C1, 2 C2

## CAP 6800pF 50V
designator C?, comment Rating: 50V  (hidden comment: 6800pF)
CAP CER 6800PF 50V X7R 0603/0805; Tolerance: 10%; Package: 0603/0805; Temperature Coefficient: X7R; Operating Temperature: -55°C ~ 125°C; Value: 6800pF
pins: 1 C1, 2 C2

## CAP 8200pF 50V
designator C?, comment Rating: 50V  (hidden comment: 8200pF)
CAP CER 8200PF 50V X7R 0603/0805; Tolerance: 10%; Package: 0603/0805; Temperature Coefficient: X7R; Operating Temperature: -55°C ~ 125°C; Value: 8200pF
pins: 1 C1, 2 C2

## CAP POL 0.1uF 35V
designator C?  value 0.10uF  Rating: 35V
0.1µF 35V Aluminum Electrolytic Capacitors Radial, Can - SMD  7000 Hrs @ 105°C; Manufacturer_Name: Nichicon; Manufacturer Part Number: UCB1V0R1MCL1GS; Datasheet Link: http://www.nichicon.co.jp/english/products/pdfs/e-ucb.pdf; Height: 7.3mm; Supplier 1: Digi-Key; Supplier Part Number 1: 493-9956-1-ND
pins: 1 +, 2 -

## CAP POL 0.1uF 100V
designator C?  value 0.10uF  Rating: 100V
0.1µF 100V Aluminum Electrolytic Capacitors, Through-Hole, Radial, Can 2000 Hrs @ 85°C; Manufacturer_Name: Nichicon; Manufacturer Part Number: UKL2A0R1KDD; Datasheet Link: http://www.mouser.com/ds/2/293/e-ukl-876305.pdf; Height: 12.5mm; Supplier 1: Digi-Key; Supplier Part Number 1: 493-16876-ND
pins: 1 +, 2 -

## CAP POL 10uF RADIAL
designator C?, comment 10uF POL 50V
CAP ALUM 10UF 50V RADIAL; Tolerance: 20%; Temperature Coefficient: Unspecified; ComponentLink1Description: Digikey Link; ComponentLink1URL: https://www.digikey.ca/product-detail/en/panasonic-electronic-components/ECA-1HM100I/P10425CT-ND/8603345; Package: RADIAL; Value: 10uF; Rating: 50V; Operating Temperature: -40°C ~ 85°C; Dimensions: 0.197" Dia (5.00mm)
pins: NEG, POS

## CAP POL 100uF SMD
designator C?, comment 100uF 35V
CAP ALUM 100UF 35V SMD; Value: 10uF; Tolerance: 20%; Rating: 50V; Temperature Coefficient: Unspecified; ComponentLink1Description: Digikey Link; ComponentLink1URL: https://www.digikey.ca/product-detail/en/panasonic-electronic-components/ECA-1HM100I/P10425CT-ND/8603345; Package: RADIAL; Operating Temperature: -40°C ~ 85°C; Dimensions: 0.197" Dia (5.00mm)
pins: NEG, POS

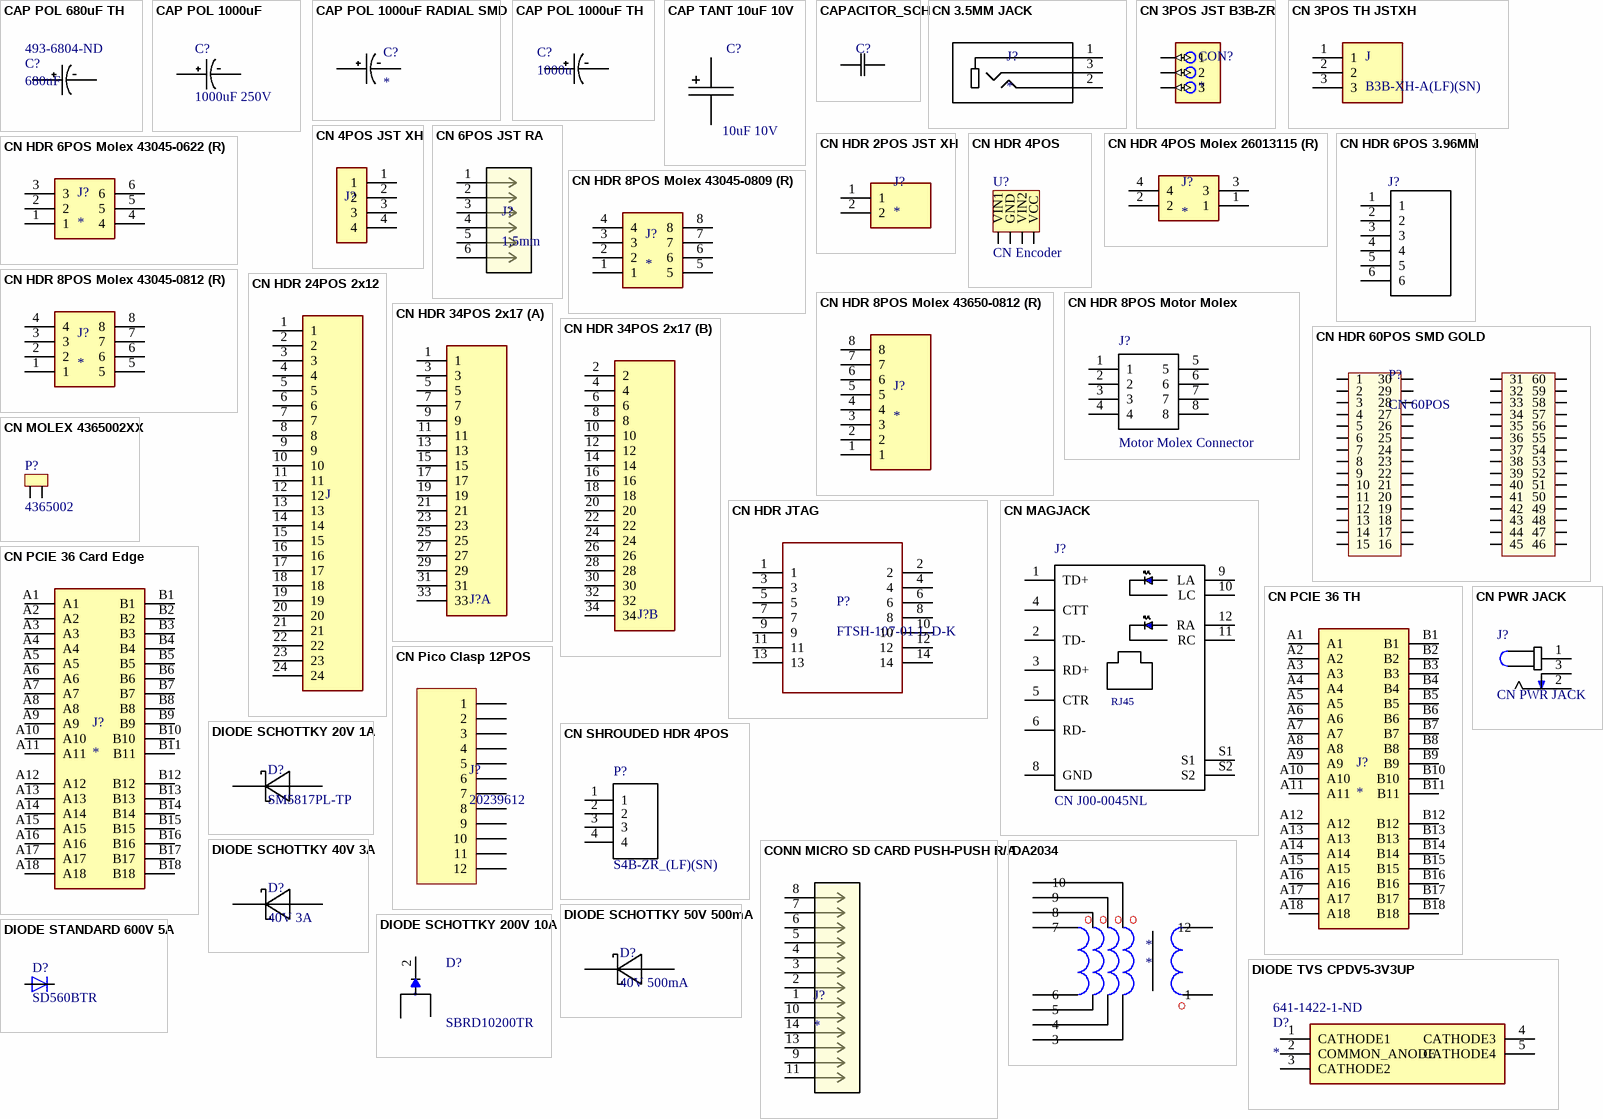
[diagram p3: symbols CAP POL 680uF TH to DIODE TVS CPDV5-3V3UP]

## CAP POL 680uF TH
designator C?, comment 680uF  Supplier Part Number 1: 493-6804-ND
NICHICON   UHW1V681MPD6 ALUMINUM ELECTROLYTIC CAPACITOR, 680UF, 35V, 20%, RADIAL, FULL REEL; Dielectric Material: Aluminium; Manufacturer: Nichicon; Manufacturer Part Number: UHW1V681MPD6; RoHS: Yes; Number of Pins: 2; Capacitance: 680uF; Tolerance: 20%; Termination: Radial; Voltage: 35V; Supplier 1: Digi-Key
pins: NEG, POS

## CAP POL 1000uF
designator C?, comment 1000uF 250V
United Chemi-Con / ESMQ251VSN102MQ45S; Dielectric Material: Aluminium; Capacitance: 1mF; Tolerance: 20%; Lead Diameter: 2mm; Supplier 1: Digi-Key; Manufacturer: United Chemi-Con; Manufacturer Part Number: ESMQ251VSN102MQ45S; RoHS: Yes; Mount: Through Hole,PCB; Number of Pins: 2; Max Operating Temperature: 85°C; Termination: Radial; Voltage: 250V; Diameter: 25.4mm; Height - Seated (Max): 45mm; Lead Pitch: 10mm; REACH SVHC: No SVHC; Supplier Part Number 1: 565-2754-ND
pins: NEG, POS

## CAP POL 1000uF RADIAL SMD
designator C?
1000µF 25V Aluminum Electrolytic Capacitors Radial, Can - SMD 5000 Hrs @ 105Â°C; MF: Panasonic; MP: EEV-FK1E102Q; Package: Radial Panasonic; Value: *; Price: None; SnapEDA_Link: https://www.snapeda.com/parts/EEV-FK1E102Q/Panasonic%20Electronic%20Components/view-part/492355/?ref=snap; ComponentLink1Description: Digi-Key; ComponentLink1URL: https://www.digikey.ca/en/products/detail/panasonic-electronic-components/EEV-FK1E102Q/396274?s=N4IgTCBcDaIKJwGoFoBiBpAjHTAGMAiiALoC%2BQA; ComponentLink2Description: ciiva; ComponentLink2URL: https://ciiva.com/part/250usg1000mefcsn25x45-4128165
pins: NEG, POS

## CAP POL 1000uF TH
designator C?, comment 1000u
NICHICON   UVR1E102MPD1TD   ALUMINUM ELECTROLYTIC CAPACITOR, 1000UF, 25V, 20%, RADIAL, FULL REEL; Dielectric Material: Aluminium; Capacitance: 1mF; Leakage Current: 750uA; Dissipation Factor: 0.16%; Lead Diameter: 0.6mm; Supplier 1: Digi-Key; Manufacturer: Nichicon; Manufacturer Part Number: UVR1E102MPD1TD; RoHS: Yes; Category: Aluminum Electrolytic Capacitors; Mount: Through Hole,PCB; Number of Pins: 2; Max Operating Temperature: 85°C; Tolerance: 20%; Voltage Rating (DC): 25V; Voltage Rating: 25V; Termination: Radial; Voltage: 25V; Diameter: 10mm; Length: 20mm; Height: 20mm; Height - Seated (Max): 0.866inch; Lead Pitch: 5mm; REACH SVHC: No SVHC; ComponentLink1URL: https://datasheet.ciiva.com/7851/e-vr-7851718.pdf?src-supplier=Element14; ComponentLink1Description: https://datasheet.ciiva.com/7851/e-vr-7851718.pdf?src-supplier=Element14; ComponentLink2URL: https://datasheet.ciiva.com/6300/e-vr-6300009.pdf?src-supplier=Digi-Key; ComponentLink2Description: https://datasheet.ciiva.com/6300/e-vr-6300009.pdf?src-supplier=Digi-Key; ComponentLink3URL: https://datasheet.ciiva.com/6300/e-vr-6300010.pdf?src-supplier=Digi-Key; ComponentLink3Description: https://datasheet.ciiva.com/6300/e-vr-6300010.pdf?src-supplier=Digi-Key; ComponentLink4URL: https://datasheet.ciiva.com/11684/e-vr-11684106.pdf?src-supplier=Avnet; ComponentLink4Description: https://datasheet.ciiva.com/11684/e-vr-11684106.pdf?src-supplier=Avnet; ComponentLink5URL: https://datasheet.ciiva.com/16502/e-vr-16502813.pdf?src-supplier=Future+Electronics; ComponentLink5Description: https://datasheet.ciiva.com/16502/e-vr-16502813.pdf?src-supplier=Future+Electronics; ComponentLink6URL: https://datasheet.ciiva.com/46381/1909356-46381757.pdf?src-supplier=Element14; ComponentLink6Description: https://datasheet.ciiva.com/46381/1909356-46381757.pdf?src-supplier=Element14; Supplier Part Number 1: 493-5913-1-ND
pins: NEG, POS

## CAP TANT 10uF 10V
designator C?, comment 10uF 10V
CAP TANT 10UF 10V 1206; Tolerance: 10%; Package: 1206; Value: 10uF; Rating: 10V; Operating Temperature: -55°C ~ 125°C
pins: 1 P$1, 2 P$2

## CAPACITOR_SCH
designator C?
pins: 1 C1, 2 C2

## CN 3.5MM JACK
designator J?
CN JACK STEREO 3.5MM R/A; MF: CUI Devices; MP: SJ1-3523N; Digikey: CP1-3523N-ND; Digikey Link: https://www.digikey.ca/product-detail/en/cui-devices/SJ1-3523N/CP1-3523N-ND/738689; Supplier 1: Digi-Key; Supplier Part Number 1: CP1-3523N-ND
pins: 1, 2, 3

## CN 3POS JST B3B-ZR
designator CON?
Connector Header Through Hole 3 position 0.059 (1.50mm); MP: B3B-ZR; MF: JST Sales; Price: $0.18; Package: Bulk; SnapEDA_Link: https://www.snapeda.com/parts/B3B-ZR/JST%20Sales%20America%20Inc./view-part/496625/?ref=snap; Value: *; ComponentLink1Description: Digikey Link; ComponentLink1URL: https://www.digikey.com/en/products/detail/jst-sales-america-inc/B3B-ZR(LF)(SN)/926565?utm_source=snapeda&utm_medium=aggregator&utm_campaign=buynow; Digikey: 455-1658-ND
pins: 1 (io), 2 (io), 3 (io)

## CN 3POS TH JSTXH
designator J, comment B3B-XH-A(LF)(SN)
CN 3POS TH JST XH; MF: JST Sales; Package: None; SnapEDA_Link: https://www.snapeda.com/parts/B3B-XH-A(LF)(SN)/JST%20Sales%20America%20Inc./view-part/231271/?ref=snap; MP: B3B-XH-A(LF)(SN); Price: None; Value: *
pins: 1, 2, 3

## CN 4POS JST XH
designator J?
Connector Header Through Hole 4 position 0.098 _2.50mm_ / B4B-XH-A(LF)(SN); MP: B4B-XH-A_LF__SN_; MF: JST Sales; Price: None; Package: None; Value: *; SnapEDA_Link: https://www.snapeda.com/parts/B4B-XH-A%28LF%29%28SN%29/JST%20Sales%20America%20Inc./view-part/447494/?ref=snap
pins: 1, 2, 3, 4

## CN 6POS JST RA
designator J?, comment 1.5mm
Conn Shrouded Header HDR 6 POS 1.5mm Solder RA Thru-Hole Box; Manufacturer: JST; Manufacturer Part Number: S6B-ZR(LF)(SN); Current Rating: 1A; Voltage Rating: 50V; Supplier 1: Digi-Key; RoHS: Yes; Category: Headers and Wire Housings; Mount: Through Hole; Number of Pins: 6; Max Operating Temperature: 85°C; Termination: Solder; Voltage Rating (DC): 50V; Length: 10.5mm; Width: 3.5mm; Height: 7.2mm; Depth: 6mm; Lead Pitch: 1.5mm; REACH SVHC: No SVHC; ComponentLink1URL: https://datasheet.ciiva.com/8052/80556-8052225.pdf?src-supplier=Element14; ComponentLink1Description: https://datasheet.ciiva.com/8052/80556-8052225.pdf?src-supplier=Element14; ComponentLink2URL: https://datasheet.ciiva.com/25617/0900766b81147f94-25617345.pdf?src-supplier=RSComponents; ComponentLink2Description: https://datasheet.ciiva.com/25617/0900766b81147f94-25617345.pdf?src-supplier=RSComponents; ComponentLink3URL: https://datasheet.ciiva.com/11752/0900766b8082f593-11752194.pdf?src-supplier=RSComponents; ComponentLink3Description: https://datasheet.ciiva.com/11752/0900766b8082f593-11752194.pdf?src-supplier=RSComponents; ComponentLink4URL: https://datasheet.ciiva.com/26894/getdatasheetpartid-642095-26894637.pdf?src-supplier=Verical; ComponentLink4Description: https://datasheet.ciiva.com/26894/getdatasheetpartid-642095-26894637.pdf?src-supplier=Verical; ComponentLink5URL: https://datasheet.ciiva.com/712/ezh-712560.pdf?src-supplier=Digi-Key; ComponentLink5Description: https://datasheet.ciiva.com/712/ezh-712560.pdf?src-supplier=Digi-Key; ComponentLink6URL: https://datasheet.ciiva.com/16484/s6b-zrlfsn-16484554.pdf?src-supplier=Future+Electronics; ComponentLink6Description: https://datasheet.ciiva.com/16484/s6b-zrlfsn-16484554.pdf?src-supplier=Future+Electronics; Supplier Part Number 1: 455-1673-ND
pins: 1, 2, 3, 4, 5, 6

## CN HDR 2POS JST XH
designator J?
Connector Header Through Hole 2 position 0.098 _2.50mm_ / JST XH; MP: B2B-XH-A_LF__SN_; MF: JST Sales; Price: None; Package: None; Value: *; SnapEDA_Link: https://www.snapeda.com/parts/B2B-XH-A%28LF%29%28SN%29/JST%20Sales%20America%20Inc./view-part/492310/?ref=snap
pins: 1, 2

## CN HDR 4POS
designator U?, comment CN Encoder
CN HDR R/A 4POS 1.5MM; MF: JST Sales America Inc.; MP: S4B-ZR(LF)(SN); Rating: 1A; Digikey: 455-1671-ND; Digikey Link: https://www.digikey.ca/products/en?keywords=455-1671-ND; Price: 0.324 CAD; Package: N/A; Value: N/A; Supplier 1: Digi-Key; Supplier Part Number 1: 455-1671-ND
pins: GND (power), VCC (power), VIN1 (in), VIN2 (in)

## CN HDR 4POS Molex 26013115 (R)
designator J?
Molex 26013115 4POS Minifit / dual row, right angle
pins: 1, 2, 3, 4

## CN HDR 6POS 3.96MM
designator J?, comment CONN HEADER VERT 6POS 3.96MM  (value not drawn)
MF: TE Connectivity; MP: 1877285-6; Current Rating: 7.5A; Voltage Rating: 250VAC; SnapEDA_Link: https://www.snapeda.com/parts/1877285-6/TE%20Connectivity/view-part/2371244/?ref=snap; Digikey: A99849-ND; Digikey Link: https://www.digikey.ca/product-detail/en/te-connectivity-amp-connectors/1877285-6/A99849-ND/2000097; Supplier 1: Digi-Key; Supplier Part Number 1: A99849-ND
pins: 1, 2, 3, 4, 5, 6

## CN HDR 6POS Molex 43045-0622 (R)
designator J?
Molex 43045-0622 6POS Microfit / dual row, right angle
pins: 1, 2, 3, 4, 5, 6

## CN HDR 8POS Molex 43045-0809 (R)
designator J?
Molex 43045-0809 8POS Microfit / dual row, right angle, surface mount
pins: 1, 2, 3, 4, 5, 6, 7, 8

## CN HDR 8POS Molex 43045-0812 (R)
designator J?
Molex 43045-0812 8POS Microfit / DR TH Vertical
pins: 1, 2, 3, 4, 5, 6, 7, 8

## CN HDR 8POS Molex 43650-0812 (R)
designator J?
Molex 43650-0812 8POS Microfit / single row, right angle, surface mount
pins: 1, 2, 3, 4, 5, 6, 7, 8

## CN HDR 8POS Motor Molex
designator J?, comment Motor Molex Connector
Connector Header Through Hole 8 position 0.165" (4.20mm); MP: 0039281083; MF: Molex; Digikey: WM3803-ND; Price: 1.624 CAD; Value: N/A; Digikey Link: https://www.digikey.ca/products/en?keywords=WM3803-ND; Supplier 1: Digi-Key; Supplier Part Number 1: WM3803-ND
pins: 1, 2, 3, 4, 5, 6, 7, 8

## CN HDR 24POS 2x12
designator J  (value not drawn)
Pin Connector 2X12P MOD2 STIFTLEI 24 POS 0.1" 2.54mm
pins: 1, 2, 3, 4, 5, 6, 7, 8, 9, 10, 11, 12, 13, 14, 15, 16, 17, 18, 19, 20, 21, 22, 23, 24

## CN HDR 34POS 2x17
designator J?, comment 0.1" Header Female 34  (value not drawn)
Female Header THRU 34POS 2ROW 0.1" (2.54mm) pitch
part A pins: 1, 3, 5, 7, 9, 11, 13, 15, 17, 19, 21, 23, 25, 27, 29, 31, 33
part B pins: 2, 4, 6, 8, 10, 12, 14, 16, 18, 20, 22, 24, 26, 28, 30, 32, 34

## CN HDR 60POS SMD GOLD
designator P?, comment CN 60POS
60 Position Connector Header, Outer Shroud Contacts Surface Mount Gold; MF: Panasonic Electric Works; MP: AXK6S60647YG; Digikey: 255-2536-1-ND; Digikey Link: https://www.digikey.ca/product-detail/en/panasonic-electric-works/AXK6S60647YG/255-2536-1-ND/1986699; Price: 3.718; Value: N/A; Tolerance: N/A; Rating: N/A; Package: N/A; Supplier 1: Digi-Key; Supplier Part Number 1: 255-2536-1-ND
pins: 1, 2, 3, 4, 5, 6, 7, 8, 9, 10, 11, 12, 13, 14, 15, 16, 17, 18, 19, 20, 21, 22, 23, 24, 25, 26, 27, 28, 29, 30, 31, 32, 33, 34, 35, 36, 37, 38, 39, 40, 41, 42, 43, 44, 45, 46, 47, 48, 49, 50, 51, 52, 53, 54, 55, 56, 57, 58, 59, 60

## CN HDR JTAG
designator P?, comment FTSH-107-01-L-D-K
Connector Header Through Hole 14 position 0.050" (1.27mm); MF: Samtec Inc.; Rating: 3.4A; ComponentLink1Description: Digikey; ComponentLink1URL: https://www.digikey.ca/product-detail/en/samtec-inc/FTSH-107-01-L-D-K/612-FTSH-107-01-L-D-K-ND/6693516; ComponentLink2Description: Datasheet; ComponentLink2URL: https://www.digikey.ca/en/datasheets/samtecinc/samtec-inc-ftsh-1xx-xx-xx-d-xx-xx-mkt; Digikey: 612-FTSH-107-01-L-D-K-ND; Digikey Link: https://www.digikey.ca/product-detail/en/samtec-inc/FTSH-107-01-L-D-K/612-FTSH-107-01-L-D-K-ND/6693516; MP: FTSH-107-01-L-D-K; Price: 5.14000 CAD; Supplier 1: Mouser; Supplier Part Number 1: 200-FTSH10701LDK
pins: 1, 2, 3, 4, 5, 6, 7, 8, 9, 10, 11, 12, 13, 14

## CN MAGJACK
designator J?, comment CN J00-0045NL
CN MAGJACK 1PORT 100 BASE-TX; MF: Pulse Electronics; Package: None; Digikey Link: https://www.digikey.com/product-detail/en/pulse-electronics-network/J00-0045NL/553-1619-5-ND/1036860?utm_source=snapeda&utm_medium=aggregator&utm_campaign=symbol; Digikey: 553-1619-5-ND; SnapEDA_Link: https://www.snapeda.com/parts/J00-0045NL/Pulse%20Electronics%20Network/view-part/87956/?ref=snap; MP: J00-0045NL; Value: *; Supplier 1: Mouser; Supplier Part Number 1: 673-J00-0045NL
pins: 1 TD+, 2 TD-, 3 RD+, 4 CTT, 5 CTR, 6 RD-, 8 GND, 9 LA, 10 LC, 11 RC, 12 RA, S1, S2
text: RJ45

## CN MOLEX 4365002XX
designator P?, comment 4365002
MOLEX MICROFIT 2CKT RIGHT THRU; MP: 4365002XX; MF: MOLEX; Digikey: WM17581-ND; Digikey Link: https://www.digikey.com/en/products/detail/molex/0436500205/3310532?s=N4IgTCBcDaICwGYBsBWADGsaUgLoF8g; Package: Microfit; Price: 1.44 CAD; Value: N/A; Supplier 1: Digi-Key
pins: 1, 2

## CN PCIE 36 Card Edge
designator J?
36 Position Male PCIE Connector
pins: A1, A2, A3, A4, A5, A6, A7, A8, A9, A10, A11, A12, A13, A14, A15, A16, A17, A18, B1, B2, B3, B4, B5, B6, B7, B8, B9, B10, B11, B12, B13, B14, B15, B16, B17, B18

## CN PCIE 36 TH
designator J?
36 Position Female Connector PCI Expressâ„¢ Gold 0.039 _1.00mm_ Black 10018784-10210TLF; MF: Amphenol ICC; Price: None; SnapEDA_Link: https://www.snapeda.com/parts/10018784-10210TLF/Amphenol%20FCI/view-part/520950/?ref=snap; MP: 10018784-10210TLF; Package: None; Value: *
pins: A1, A2, A3, A4, A5, A6, A7, A8, A9, A10, A11, A12, A13, A14, A15, A16, A17, A18, B1, B2, B3, B4, B5, B6, B7, B8, B9, B10, B11, B12, B13, B14, B15, B16, B17, B18

## CN Pico Clasp 12POS
designator J?, comment 20239612
12 POS Right Angle Pico Clasp Surface Mount
pins: 1, 2, 3, 4, 5, 6, 7, 8, 9, 10, 11, 12

## CN PWR JACK
designator J?
1.3 x 4.2 mm, 2.0 A, Horizontal, Through Hole, Dc Power Jack Connector; MP: PJ-007; MF: CUI Devices; Current Rating: 2.0A; Price: None; SnapEDA_Link: https://www.snapeda.com/parts/PJ-007/CUI%20Devices/view-part/260682/?ref=snap; Package: None; Value: *; Supplier 1: Digi-Key; Supplier Part Number 1: CP-2519-ND
pins: 1, 2, 3

## CN SHROUDED HDR 4POS
designator P?, comment S4B-ZR_(LF)(SN)
Conn Shrouded Header HDR 4 POS 1.5mm Solder RA Thru-Hole Box; MP: S4B-ZR _LF__SN_; MF: JST Sales; Package: None; Price: None; Supplier 1: Digi-Key; Supplier Part Number 1: 455-1671-ND
pins: 1, 2, 3, 4

## CONN MICRO SD CARD PUSH-PUSH R/A
designator J?
10 (8 + 2) Position Card Connector Secure Digital - microSD™ Surface Mount, Right Angle Gold; MF: Molex; MP: 5027740891; ComponentLink1Description: Digikey; ComponentLink1URL: https://www.digikey.ca/en/products/detail/molex/5027740891/1952536; Digikey: WM24066CT-ND; ComponentLink2Description: Datasheet; ComponentLink2URL: https://www.molex.com/pdm_docs/sd/5027740891_sd.pdf
pins: 1, 2, 3, 4, 5, 6, 7, 8, 9, 10, 11, 13, 14

## DA2034
designator *
Audio Transformers / Signal Transformers DA2032 Cap Chrgr For Linear LT3750/51; Supplier 1: Mouser; Supplier Part Number 1: 994-DA2034-ALB
pins: 1, 3, 4, 5, 6, 7, 8, 9, 10, 12

## DIODE SCHOTTKY 20V 1A
designator D?, comment SM5817PL-TP
Diode Schottky 20V 1A Surface Mount SOD-123FL; MF: Micro Commercial Co; ComponentLink1Description: digikey; ComponentLink1URL: https://www.digikey.ca/product-detail/en/on-semiconductor/MBR0540T1G/MBR0540T1GOSCT-ND/917967; Digikey: SM5817PL-TPMSCT-ND; Digikey Link: https://www.digikey.ca/product-detail/en/micro-commercial-co/SM5817PL-TP/SM5817PL-TPMSCT-ND/1793410; MP: SM5817PL-TP; Voltage Rating: 20V; Package: SOD-123; Current Rating: 1A
pins: A, C K

## DIODE SCHOTTKY 40V 3A
designator D?, comment 40V 3A
Diode Schottky 40V 3A Surface Mount SMA; ComponentLink1Description: digikey; ComponentLink1URL: https://www.digikey.ca/product-detail/en/on-semiconductor/MBR0540T1G/MBR0540T1GOSCT-ND/917967; Package: DO-214AC
pins: A, C K

## DIODE SCHOTTKY 50V 500mA
designator D?, comment 40V 500mA
DIODE SCHOTTKY SMD 40V 500mA SOD123; ComponentLink1Description: digikey; ComponentLink1URL: https://www.digikey.ca/product-detail/en/on-semiconductor/MBR0540T1G/MBR0540T1GOSCT-ND/917967; Package: SOD-123
pins: A, C

## DIODE SCHOTTKY 200V 10A
designator D?, comment SBRD10200TR
Diode Schottky 200V 10A Surface Mount DPAK; MF: SMC Diode; MP: SBRD10200TR; SnapEDA_Link: https://www.snapeda.com/parts/SBRD10200TR/SMC%20Diode%20Solutions/view-part/702246/?ref=snap; Package: TO-252-3 SMC; ComponentLink1Description: digikey; ComponentLink1URL: https://www.digikey.ca/product-detail/en/smc-diode-solutions/SBRD10200TR/1655-1939-1-ND/8625508; Digikey: 1655-1939-1-ND; Digikey Link: https://www.digikey.ca/product-detail/en/smc-diode-solutions/SBRD10200TR/1655-1939-1-ND/8625508
pins: 1, 2, 3

## DIODE STANDARD 600V 5A
designator D?, comment SD560BTR
Diode Standard 600V 5A Surface Mount SMB; Supplier 1: Digi-Key; Supplier Part Number 1: 1655-1530-1-ND
pins: A, C

## DIODE TVS CPDV5-3V3UP
designator D?  Supplier Part Number 1: 641-1422-1-ND
TVS Diode Bidirectional Vbr = 3.5V, Working Voltage = 3.3V; Manufacturer_Name: Comchip Technology; Manufacturer Part Number: CPDV5-3V3UP; Datasheet Link: http://www.comchiptech.com/admin/files/product/CPDV5-3V3UP-HF%20RevB181493.pdf; Height: 1.1mm; Supplier 1: Digi-Key
pins: 1 CATHODE1, 2 COMMON_ANODE, 3 CATHODE2, 4 CATHODE3, 5 CATHODE4

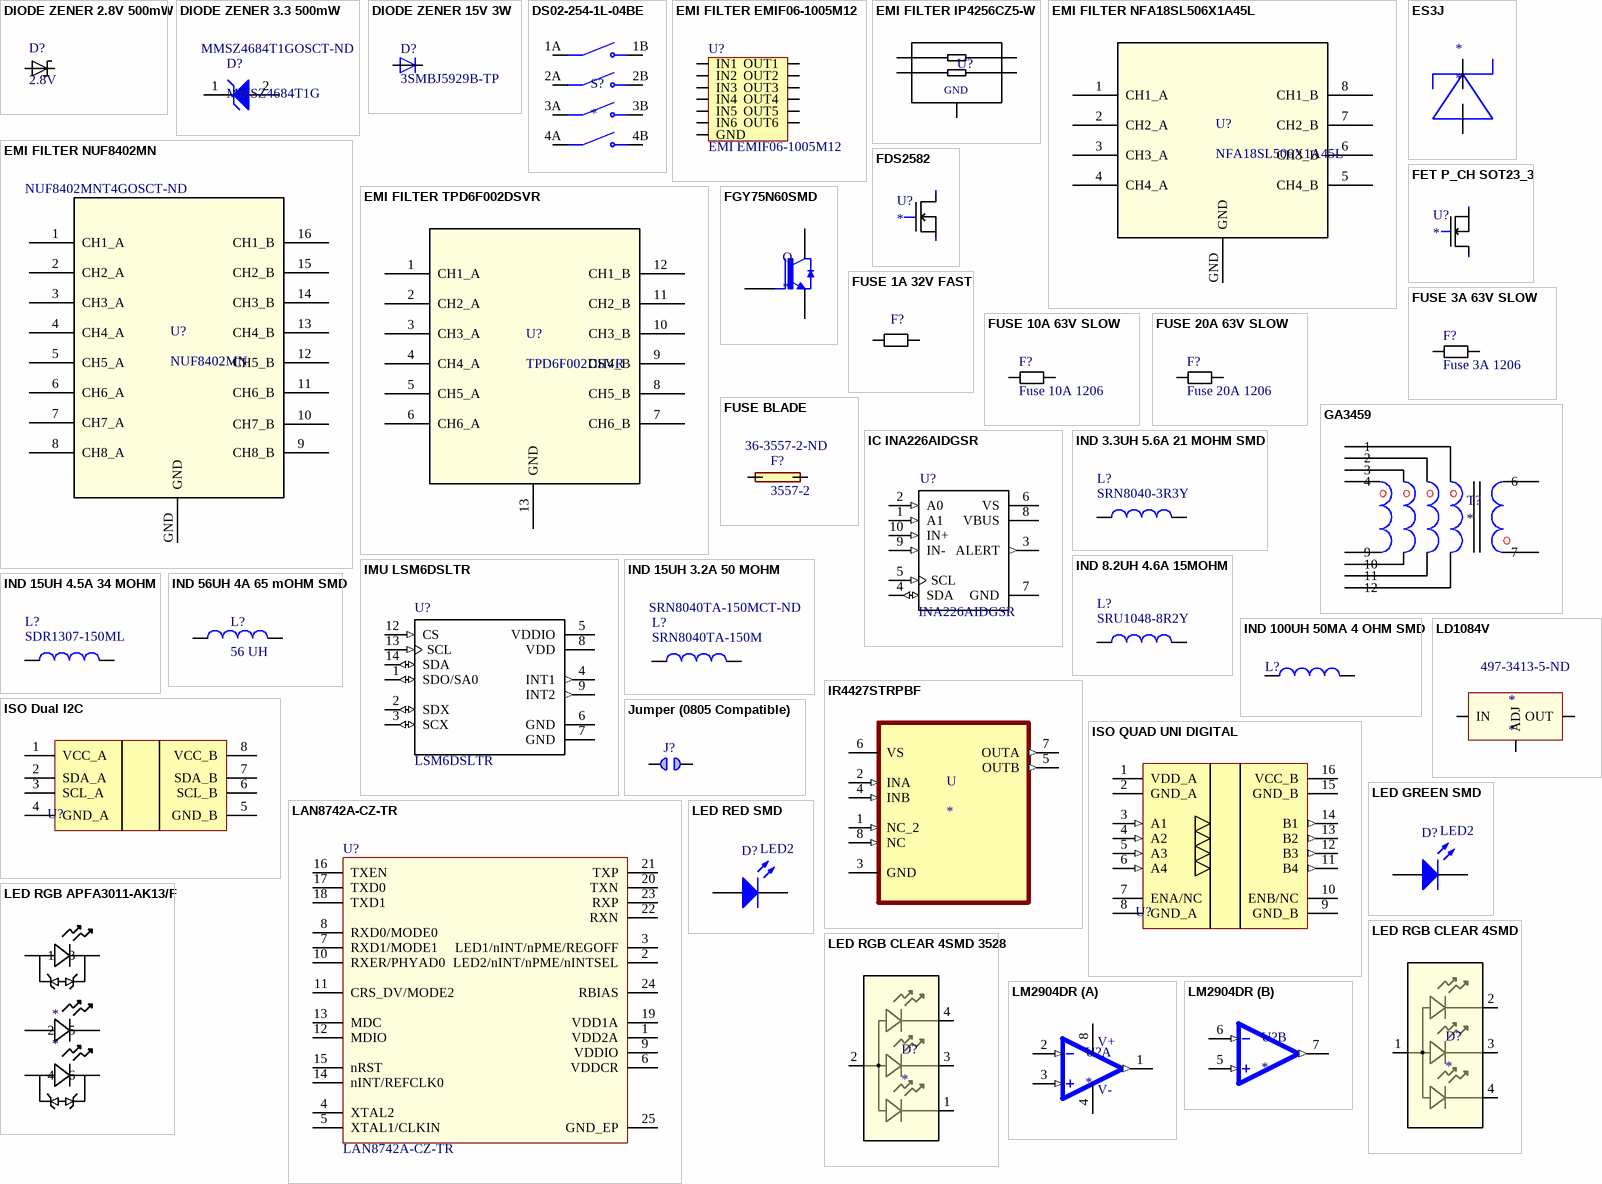
[diagram p4: symbols DIODE ZENER 2.8V 500mW to LM2904DR]

## DIODE ZENER 2.8V 500mW
designator D?, comment 2.8V
Zener Diode 2.8V 500mW ±5% Surface Mount SOD-123; Manufacturer: MMSZ5245B-TP; ComponentLink1Description: digikey; ComponentLink1URL: https://www.digikey.ca/en/products/detail/micro-commercial-co/MMSZ5245B-TP/1793206; DigiKey: MMSZ5245B-TPMSCT-ND
pins: A, C

## DIODE ZENER 3.3 500mW
designator D?, comment MMSZ4684T1G  Supplier Part Number 1: MMSZ4684T1GOSCT-ND
Zener 3V3 Voltage Regulator, 500 mW, 2-Pin SOD-123, Pb-Free, Tape and Reel; Manufacturer: On Semiconductor; ComponentLink2URL: http://www.onsemi.com/pub_link/Collateral/MMSZ4678T1-D.PDF; ComponentLink1URL: http://www.onsemi.com/; ComponentLink2Description: Datasheet; ComponentLink3URL: http://www.onsemi.com/pub_link/Collateral/425-04.PDF; ComponentLink1Description: Manufacturer URL; RoHS: Pb-Free; ComponentLink3Description: Package Specification; Supplier 1: Digi-Key
pins: 1 K, 2 A

## DIODE ZENER 15V 3W
designator D?, comment 3SMBJ5929B-TP
Diode ZENER 15V 3W; Supplier 1: Digi-Key; Supplier Part Number 1: 3SMBJ5929BTPMSCT-ND
pins: A, C

## DS02-254-1L-04BE
designator S?
Dip Switch Piano Key 4-position; MP: DS02-254-1L-04BE; Package: None; Price: None; Value: *
pins: 1A COM1, 1B NO1, 2A COM2, 2B NO2, 3A COM3, 3B NO3, 4A COM4, 4B NO4

## EMI FILTER EMIF06-1005M12
designator U?, comment EMI EMIF06-1005M12
FILTER RC(PI) 100 OHM/45PF SMD; MF: STMicroelectronics; Price: 0.49 CAD; Digikey: 497-7740-1-ND; MP: EMIF06-1005M12; Digikey Link: https://www.digikey.ca/product-detail/en/stmicroelectronics/EMIF06-1005M12/497-7740-1-ND/1883755; Package: 12-UFDFN; Supplier 1: Digi-Key; Supplier Part Number 1: 497-7740-1-ND
pins: 1 IN1, 2 IN2, 3 IN3, 4 IN4, 5 IN5, 6 IN6, 7 OUT1, 8 OUT2, 9 OUT3, 10 OUT4, 11 OUT5, 12 OUT6, GND

## EMI FILTER IP4256CZ5-W
designator U?, comment EMI  (value not drawn)
FILTER RC(PI) 100 OHM/19PF SMD; MF: Nexperia USA Inc.; MP: IP4256CZ5-W,115; SnapEDA_Link: https://www.snapeda.com/parts/IP4256CZ5-W/Nexperia%20USA%20Inc./view-part/3605439/?ref=snap; Price: 0.17 CAD; Package: SOT-665; Digikey: 1727-4718-1-ND; Digikey Link: https://www.digikey.ca/product-detail/en/nexperia-usa-inc/IP4256CZ5-W115/1727-4718-1-ND/2531158; Supplier 1: Digi-Key; Supplier Part Number 1: 1727-4718-1-ND
pins: 1 P$1, 2 P$2, 3 P$3, 4 P$4, 5 P$5
text: GND

## EMI FILTER NFA18SL506X1A45L
designator U?, comment NFA18SL506X1A45L
4-Channel EMI Filter 55Mhz LC 2nd Order; Manufacturer: MURATA; Manufacturer Part Number: TPD6F002DSVR; Supplier 1: Digi-Key
pins: 1 CH1_A, 2 CH2_A, 3 CH3_A, 4 CH4_A, 5 CH4_B, 6 CH3_B, 7 CH2_B, 8 CH1_B, GND